# Altium footprint library jumper.PcbLib: 1 footprints
Each footprint in its own frame and in the unit in brackets; x right, y up, seen from the top. Pads: shape width x height; smd on the part's side, far side on the other; paste and mask are expansions set on the pad; w line width, h text height; cw(c..) or ccw(c..) is an arc to the next point about the centre after c.
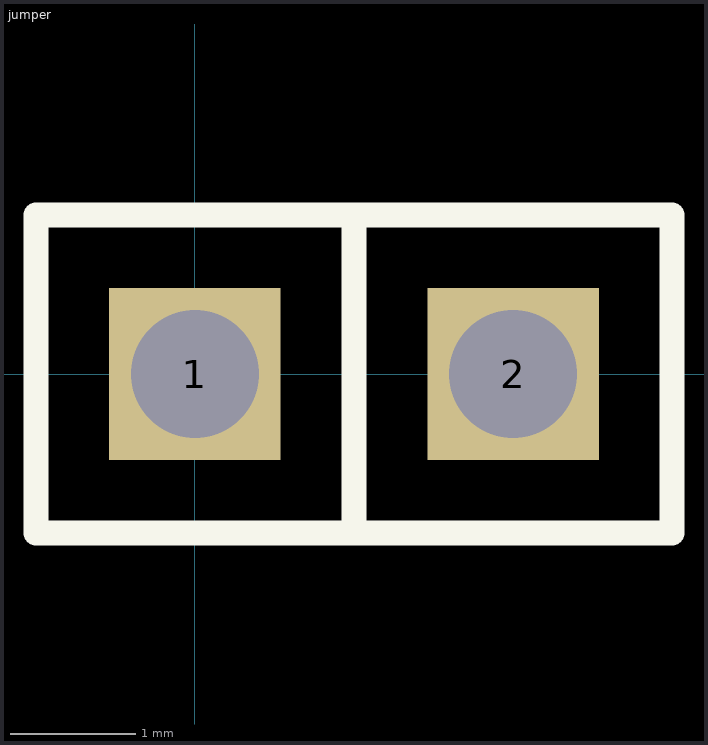
[diagram p0: the footprint, top view; thin cyan lines are the x and y axes]

## jumper [mm]
pads (2):
  rect 1.37x1.37 hole 1.02: 1(0,0) 2(2.54,0)
Top Overlay:
  lines w0.2: 1.27,-1.27 3.81,-1.27 3.81,1.27 1.27,1.27 ; 1.27,-1.27 1.27,1.27 ; 1.27,-1.27 -1.27,-1.27 -1.27,1.27 1.27,1.27 ; 1.27,-1.27 1.27,1.27
Mechanical 13:
  lines w0.1: 1.27,-1.27 3.81,-1.27 3.81,1.27 1.27,1.27 ; 1.27,-1.27 1.27,1.27 ; 1.27,-1.27 -1.27,-1.27 -1.27,1.27 1.27,1.27 ; 1.27,-1.27 1.27,1.27
3D body "TSW-101-20-G-S.stp": height 28.45, standoff -2.79, extent 1.27,-1.27 3.81,1.27
3D body "TSW-101-20-G-S.stp": height 28.45, standoff -2.79, extent -1.27,-1.27 1.27,1.27